# EAGLE library part AT25DF641 (library X893)
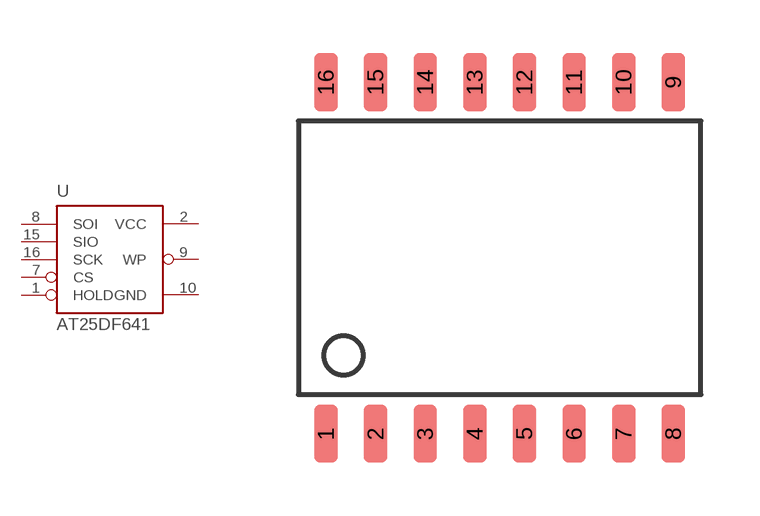
[diagram p172: symbol with the pads of SOIC16-208; footprint SOIC16-208]

Designator prefix -

## AT25DF641-S3H  [SOIC16-208]
1  HOLD  in
2  VCC  pas
7  CS  in
8  SOI
9  WP  in
10  GND  sup
15  SIO
16  SCK  in

## Footprint SOIC16-208 (pad centres in mm)
smd 0.6 x 1.5: 1 -4.445,-4.5; 2 -3.175,-4.5; 3 -1.905,-4.5; 4 -0.635,-4.5; 5 0.635,-4.5; 6 1.905,-4.5; 7 3.175,-4.5; 8 4.445,-4.5; 9 4.445,4.5; 10 3.175,4.5; 11 1.905,4.5; 12 0.635,4.5; 13 -0.635,4.5; 14 -1.905,4.5; 15 -3.175,4.5; 16 -4.445,4.5